# EAGLE library part ATMEGA32U4 (library rover12)
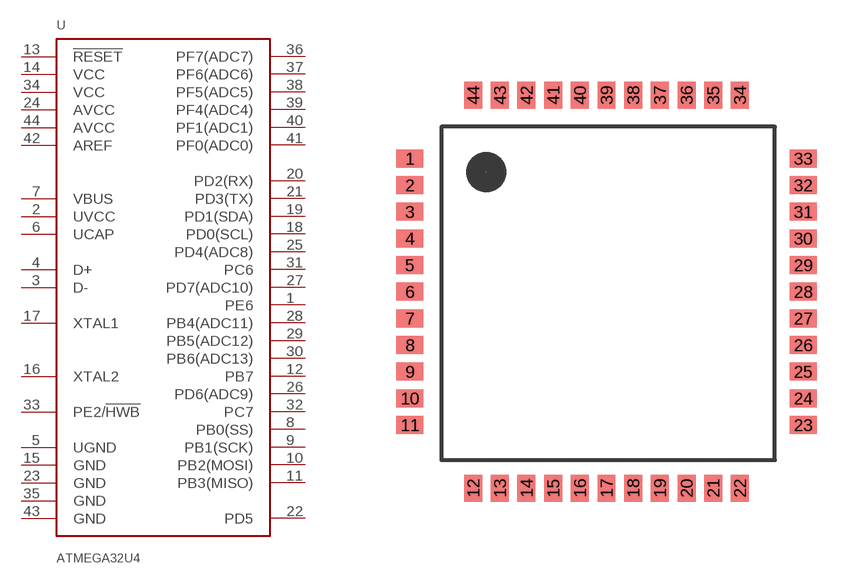
[diagram p1: symbol with the pads of TQFP-44; footprint TQFP-44]

Designator prefix U

## ATMEGA32U4  [TQFP-44]
1  PE6
2  UVCC  pwr
3  D-
4  D+
5  UGND  pwr
6  UCAP
7  VBUS  pwr
8  PB0(SS)
9  PB1(SCK)
10  PB2(MOSI)
11  PB3(MISO)
12  PB7
13  !RESET!  in
14  VCC  pwr
15  GND  pwr
16  XTAL2
17  XTAL1
18  PD0(SCL)
19  PD1(SDA)
20  PD2(RX)
21  PD3(TX)
22  PD5
23  GND  pwr
24  AVCC  pwr
25  PD4(ADC8)
26  PD6(ADC9)
27  PD7(ADC10)
28  PB4(ADC11)
29  PB5(ADC12)
30  PB6(ADC13)
31  PC6
32  PC7
33  PE2/!HWB!
34  VCC  pwr
35  GND  pwr
36  PF7(ADC7)
37  PF6(ADC6)
38  PF5(ADC5)
39  PF4(ADC4)
40  PF1(ADC1)
41  PF0(ADC0)
42  AREF  in
43  GND  pwr
44  AVCC  pwr

## Footprint TQFP-44 (pad centres in mm)
smd 0.8 x 0.54: 1 0,0; 2 0,-0.8; 3 0,-1.6; 4 0,-2.4; 5 0,-3.2; 6 0,-4; 7 0,-4.8; 8 0,-5.6; 9 0,-6.4; 10 0,-7.2; 11 0,-8; 23 11.8,-8; 24 11.8,-7.2; 25 11.8,-6.4; 26 11.8,-5.6; 27 11.8,-4.8; 28 11.8,-4; 29 11.8,-3.2; 30 11.8,-2.4; 31 11.8,-1.6; 32 11.8,-0.8; 33 11.8,0
smd 0.54 x 0.8: 12 1.9,-9.9; 13 2.7,-9.9; 14 3.5,-9.9; 15 4.3,-9.9; 16 5.1,-9.9; 17 5.9,-9.9; 18 6.7,-9.9; 19 7.5,-9.9; 20 8.3,-9.9; 21 9.1,-9.9; 22 9.9,-9.9; 34 9.9,1.9; 35 9.1,1.9; 36 8.3,1.9; 37 7.5,1.9; 38 6.7,1.9; 39 5.9,1.9; 40 5.1,1.9; 41 4.3,1.9; 42 3.5,1.9; 43 2.7,1.9; 44 1.9,1.9